# Altium schematic symbol library STM8S.SchLib: 1 symbol
Pins are listed as number, name and electrical type; pins without a type are passive.

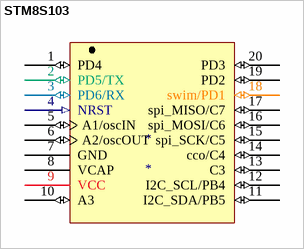
[diagram p0: symbol STM8S103]

## STM8S103
designator *
signal-integrity model STM8S103F3P6 (STMicro 8 bit MCU)
footprint TSSOP20 (Shrink Small Outline; 20 Leads; Body Width 4.4 mm; Pitch 0.65 mm)
pins: 1 PD4 (io) "T2Ch1/BEEP/UART_CLK", 2 PD5/TX (io), 3 PD6/RX (io), 4 NRST (in), 5 A1/oscIN (io), 6 A2/oscOUT (io), 7 GND (power), 8 VCAP (power), 9 VCC (power), 10 A3 (io) "T2Ch3/SPI_NSS", 11 I2C_SDA/PB5 (io), 12 I2C_SCL/PB4 (io), 13 C3 (io), 14 cco/C4 (io), 15 spi_SCK/C5 (io), 16 spi_MOSI/C6 (io), 17 spi_MISO/C7 (io), 18 swim/PD1 (io), 19 PD2 (io), 20 PD3 (io) "AIN4/TIM2_CH2/ADC_ETR"